# Altium footprint library SM02B-GHS-TB(LF)(SN).PcbLib: 1 footprints
Each footprint in its own frame and in the unit in brackets; x right, y up, seen from the top. Pads: shape width x height; smd on the part's side, far side on the other; paste and mask are expansions set on the pad; w line width, h text height; cw(c..) or ccw(c..) is an arc to the next point about the centre after c.
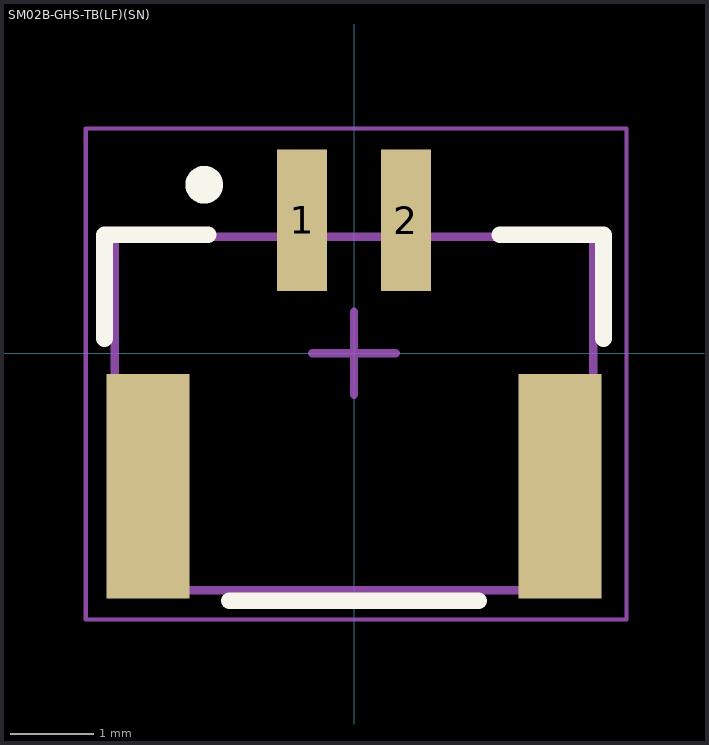
[diagram p0: the footprint, top view; thin cyan lines are the x and y axes]

## SM02B-GHS-TB(LF)(SN) [mm]
pads (4):
  rect 0.6x1.7 smd: 1(-0.625,1.6) 2(0.625,1.6)
  rect 1x2.7 smd: ""(-2.475,-1.6) ""(2.475,-1.6)
Top Overlay:
  circle w0.254: c-1.8,2.025 r0.1
  lines w0.2: -3,0.175 -3,1.425 -1.75,1.425 ; -1.5,-2.975 1.5,-2.975 ; 1.75,1.425 3,1.425 3,0.175
Mechanical 1:
  lines w0.1: -2.875,-2.85 -2.875,1.4 2.875,1.4 2.875,-2.85 -2.875,-2.85
  text ".Designator" at -2.749,-1.458 h0.65
Mechanical 2:
  lines w0.05: -3.225,-3.2 -3.225,2.7 3.275,2.7 3.275,-3.2 -3.225,-3.2
  lines w0.1: -0.5,0 0.5,0 ; 0,-0.5 0,0.5
3D body "SM02B-GHS-TB.STEP": height 4.35, standoff 0, extent -2.875,-2.85 2.875,2